# EAGLE library part PIC16C* (library microchip-7)
MICROCONTROLLER PIC16C5X family: EPROM/ROM-based PIC16C55X family: EPROM-based PIC16C6X family PIC16CE62X family: analog comparators/EEPROM data memory PIC16C7X family: A/D converter PIC16C71X family: A/D converter PIC16F8X family: flash EEPROM Pin compatible devices: PIC16C154, PIC16CR154, PIC16C156, PIC16CR156, PIC16C158 PIC16CR158, PIC16C52, PIC16C54, PIC16C54A, PIC16CR54A PIC16C56, PIC16C58A, PIC16CR58A, PIC16C61, PIC16C554 PIC16C556, PIC16C558, PIC16C620, PIC16C621, PIC16C622 PIC16C641, PIC16C642, PIC16C661, PIC16C662, PIC16C71 PIC16C710, PIC16C711, PIC16C715, PIC126F83, PIC16CR83 PIC16F84A, PIC16CR84 see also PIC16F8*
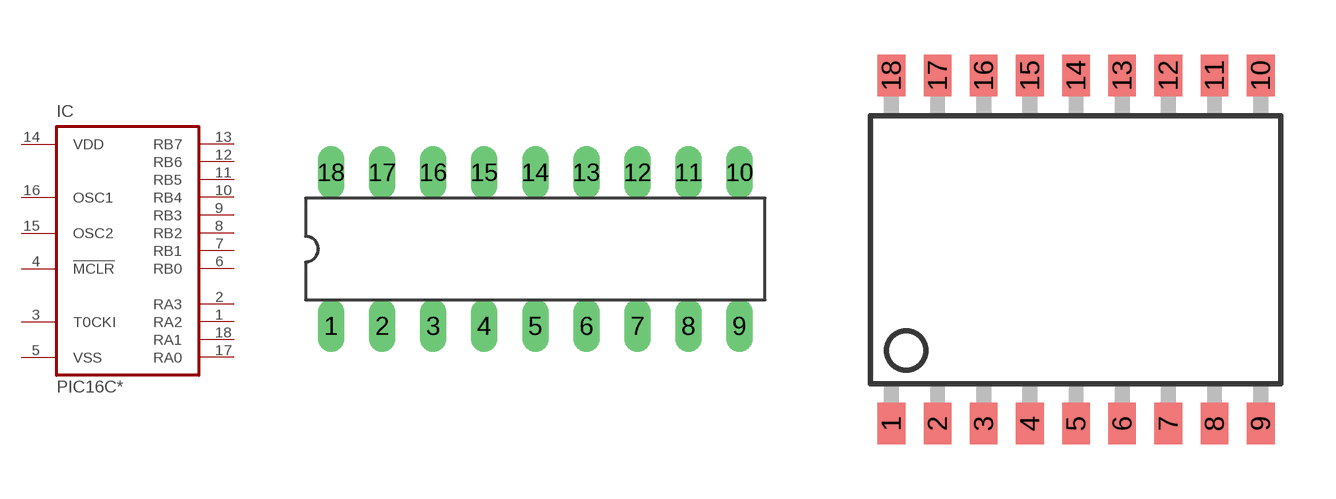
[diagram p0: symbol with the pads of DIL18; footprints DIL18, SO-18W]

Designator prefix IC

## PIC16C154P, PIC16C156P, PIC16C158P, PIC16C52P, PIC16C54P, PIC16C54AP, PIC16C55P, PIC16C554P, PIC16C556P, PIC16C558P, PIC16C56P, PIC16C58AP, PIC16C61P, PIC16C620P, PIC16C621P, PIC16C622P, PIC16C641P, PIC16C661P, PIC16C71P, PIC16C710P, PIC16C711P, PIC16C715P, PIC16C84P, PIC16CF83P, PIC16CR154P, PIC16CR156P, PIC16CR158P, PIC16CR54P, PIC16CR54AP, PIC16CR58AP, PIC16CR83P, PIC16CR84P  [DIL18]
1  RA2
2  RA3
3  T0CKI  in
4  !MCLR  in
5  VSS  pwr
6  RB0
7  RB1
8  RB2
9  RB3
10  RB4
11  RB5
12  RB6
13  RB7
14  VDD  pwr
15  OSC2  out
16  OSC1  in
17  RA0
18  RA1

## PIC16C154SO, PIC16C156SO, PIC16C158SO, PIC16C52SO, PIC16C54SO, PIC16C54ASO, PIC16C55SO, PIC16C554SO, PIC16C556SO, PIC16C558SO, PIC16C58ASO, PIC16C61SO, PIC16C620SO, PIC16C621SO, PIC16C622SO, PIC16C71SO, PIC16C710SO, PIC16C711SO, PIC16C715SO, PIC16C84SO, PIC16CR154SO, PIC16CR156SO, PIC16CR158SO, PIC16CR54SO, PIC16CR54ASO, PIC16CR58ASO, PIC16CR83SO, PIC16CR84SO  [SO-18W]
Pads as for DIL18

## Footprint DIL18 (pad centres in mm)
Dual In Line package type P
drill 0.813 long: 1 -10.16,-3.81; 2 -7.62,-3.81; 3 -5.08,-3.81; 4 -2.54,-3.81; 5 0,-3.81; 6 2.54,-3.81; 7 5.08,-3.81; 8 7.62,-3.81; 9 10.16,-3.81; 10 10.16,3.81; 11 7.62,3.81; 12 5.08,3.81; 13 2.54,3.81; 14 0,3.81; 15 -2.54,3.81; 16 -5.08,3.81; 17 -7.62,3.81; 18 -10.16,3.81

## Footprint SO-18W (pad centres in mm)
Small Outline Wide Plastic Gull Wing 300-mil body, package type SO
smd 0.762 x 1.143: 1 -5.08,-4.788; 2 -3.81,-4.788; 3 -2.54,-4.788; 4 -1.27,-4.788; 5 0,-4.788; 6 1.27,-4.788; 7 2.54,-4.788; 8 3.81,-4.788; 9 5.08,-4.788; 10 5.08,4.788; 11 3.81,4.788; 12 2.54,4.788; 13 1.27,4.788; 14 0,4.788; 15 -1.27,4.788; 16 -2.54,4.788; 17 -3.81,4.788; 18 -5.08,4.788